# EAGLE library part MCP6S26 (library IC)
Microchip Single-Ended, Rail-to-Rail, Low Gain PGA, Six Input
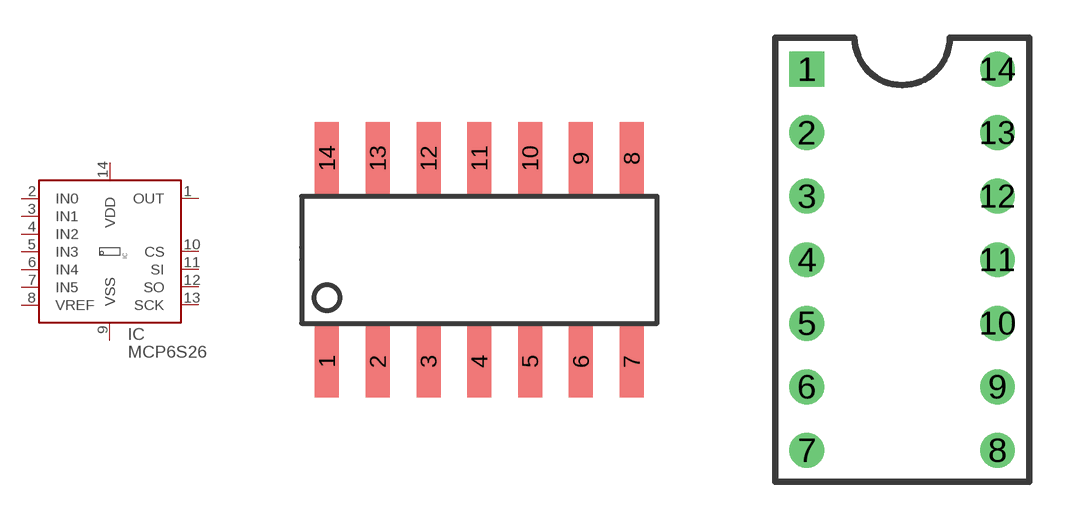
[diagram p66: symbol with the pads of SOIC14; footprints SOIC14, DIP-14C]

Designator prefix IC

## MCP6S26SL  [SOIC14]
1  OUT  out
2  IN0  in
3  IN1  in
4  IN2  in
5  IN3  in
6  IN4  in
7  IN5  in
8  VREF  in
9  VSS  pwr
10  CS  in
11  SI  in
12  SO  out
13  SCK  in
14  VDD  pwr

## MCP6S26P  [DIP-14C]
Pads as for SOIC14

## Footprint SOIC14 (pad centres in mm)
SOIC-14, 1.27mm pitch, 6.2mm width, 8.75mm length
smd 0.6 x 1.8: 1 -3.81,-2.54; 2 -2.54,-2.54; 3 -1.27,-2.54; 4 0,-2.54; 5 1.27,-2.54; 6 2.54,-2.54; 7 3.81,-2.54; 8 3.81,2.54; 9 2.54,2.54; 10 1.27,2.54; 11 0,2.54; 12 -1.27,2.54; 13 -2.54,2.54; 14 -3.81,2.54

## Footprint DIP-14C (pad centres in mm)
drill 0.889 square: 1 -3.81,7.62
drill 0.889 round: 2 -3.81,5.08; 3 -3.81,2.54; 4 -3.81,0; 5 -3.81,-2.54; 6 -3.81,-5.08; 7 -3.81,-7.62; 8 3.81,-7.62; 9 3.81,-5.08; 10 3.81,-2.54; 11 3.81,0; 12 3.81,2.54; 13 3.81,5.08; 14 3.81,7.62